# Altium footprint library SLF7045T.PcbLib: 1 footprints
Each footprint in its own frame and in the unit in brackets; x right, y up, seen from the top. Pads: shape width x height; smd on the part's side, far side on the other; paste and mask are expansions set on the pad; w line width, h text height; cw(c..) or ccw(c..) is an arc to the next point about the centre after c.
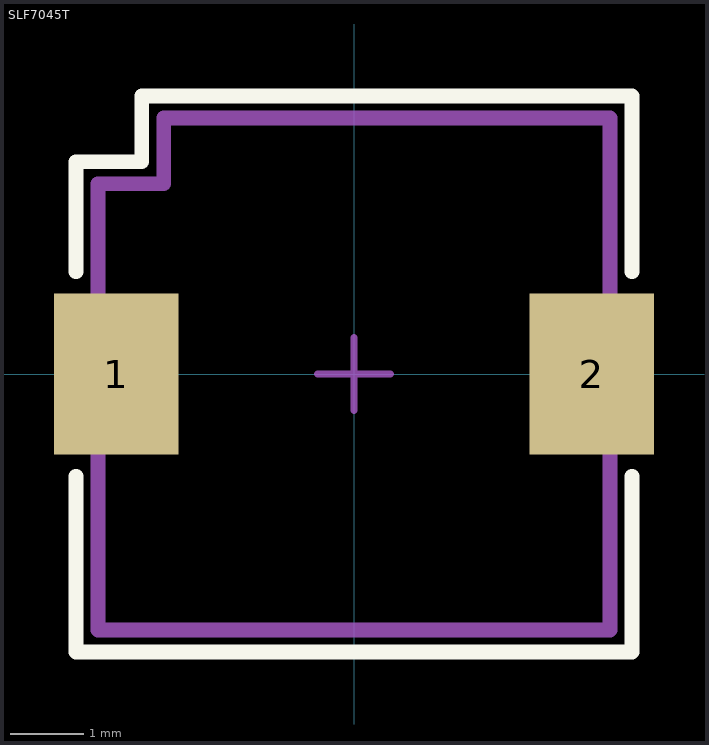
[diagram p0: the footprint, top view; thin cyan lines are the x and y axes]

## SLF7045T [mm]
pads (2):
  rect 1.7x2.2 smd: 1(-3.25,0) 2(3.25,0)
Top Overlay:
  lines w0.2: -3.8,-1.4 -3.8,-3.8 3.8,-3.8 3.8,-1.4 ; -3.8,1.4 -3.8,2.9 -2.9,2.9 -2.9,3.8 3.8,3.8 3.8,1.4
Mechanical 7:
  lines w0.2: -3.5,-3.5 3.5,-3.5 3.5,3.5 -2.6,3.5 -2.6,2.6 -3.5,2.6 -3.5,-3.5
Mechanical 15:
  lines w0.1: -0.5,0 0.5,0 ; 0,-0.5 0,0.5
3D body "SLF7045T.STEP": height 4.64, standoff 0.03, extent -3.6,-3.5 3.6,3.5